# Altium footprint library TO-18.PcbLib: 1 footprints
Each footprint in its own frame and in the unit in brackets; x right, y up, seen from the top. Pads: shape width x height; smd on the part's side, far side on the other; paste and mask are expansions set on the pad; w line width, h text height; cw(c..) or ccw(c..) is an arc to the next point about the centre after c.
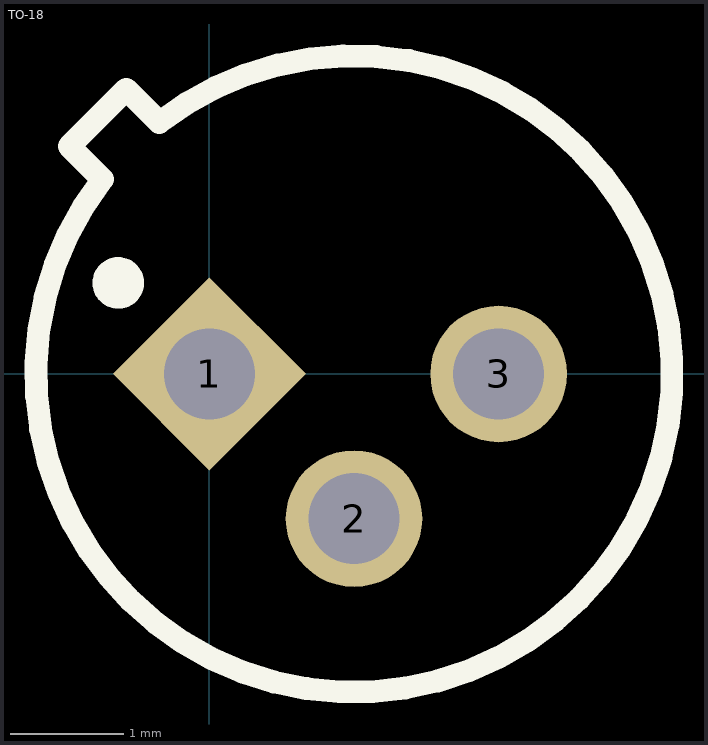
[diagram p0: the footprint, top view; thin cyan lines are the x and y axes]

## TO-18 [mm]
height 5.2
pads (3):
  rect 1.2x1.2 hole 0.8 rot 45: 1(0,0)
  round 1.2 hole 0.8: 2(1.27,-1.27) 3(2.54,0)
Top Overlay:
  circle w0.254: c-0.8,0.8 r0.1
  lines w0.2: -0.941,1.708 ccw(c1.27,0) -0.438,2.211 ; -0.94,1.71 -1.23,2 -0.73,2.5 ; -0.44,2.21 -0.73,2.5 ; -0.73,2.5 -0.73,2.5
Mechanical 15:
  text "'.Designator'" at -1.862,-0.62 h1.5
3D body "TO-18.STEP": height 5.43, standoff -1.9, extent -2.012,-2.93 4.23,3.312